# EAGLE library part IV25 (library XXXXXXtube supl)
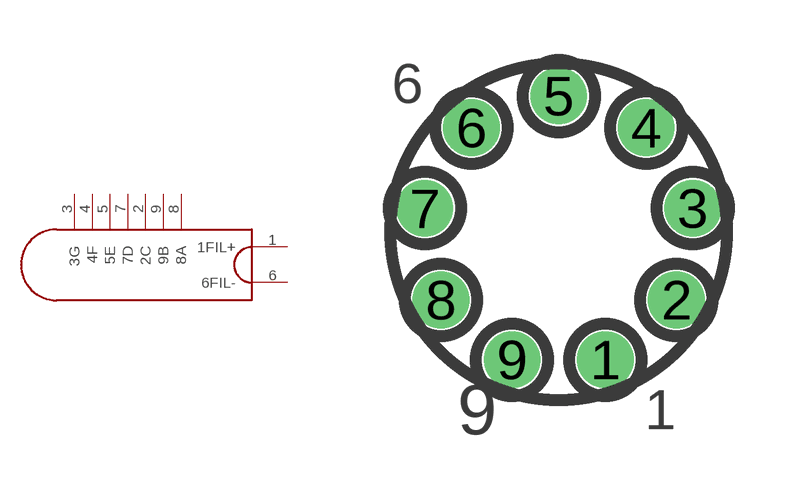
[diagram p1: symbol with the pads of NIXIE-9; footprint NIXIE-9]

Designator prefix -

## IV25  [NIXIE-9]
1  1FIL+
2  2C
3  3G
4  4F
5  5E
6  6FIL-
7  7D
8  8A
9  9B

## Footprint NIXIE-9 (pad centres in mm)
Eagle SCR autogenerated 9 pin Nixie socket
drill 0.8 pad 1.422: 1 1.164,-3.197; 2 2.947,-1.701; 3 3.351,0.591; 4 2.187,2.607; 5 0,3.403; 6 -2.187,2.607; 7 -3.351,0.591; 8 -2.947,-1.701; 9 -1.164,-3.197